# Altium schematic symbol library ATECC608A-TNGTLSS-G.SchLib: 2 symbols
Pins are listed as number, name and electrical type; pins without a type are passive.

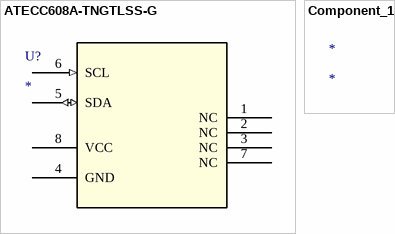
[diagram p0: symbols ATECC608A-TNGTLSS-G to Component_1]

## ATECC608A-TNGTLSS-G
designator U?
No Description Available; Mfr_Name: Microchip; RefDes: RefDes; Type: Type
footprint SOIC8_NARROW_SN_MCH
pins: 1 NC, 2 NC, 3 NC, 4 GND (power), 5 SDA (io), 6 SCL (in), 7 NC, 8 VCC (power)

## Component_1
designator *